# Altium schematic symbol library polulu_motor.SchLib: 1 symbol
Pins are listed as number, name and electrical type; pins without a type are passive.

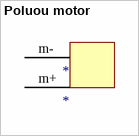
[diagram p0: symbol Poluou motor]

## Poluou motor
designator *
footprint PCBComponent_1
pins: m+, m-